# Altium schematic symbol library U_BQ294700.Schlib: 1 symbol
Pins are listed as number, name and electrical type; pins without a type are passive.

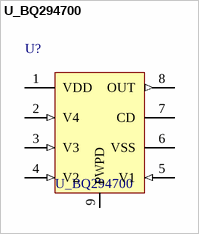
[diagram p0: symbol U_BQ294700]

## U_BQ294700
designator U?
Overvoltage Protection IC for Li-Ion Batteries
pins: 1 VDD (power) "Power supply input", 2 V4 (in) "Sense input for positive voltage of the fourth cell from the bottom of the stack", 3 V3 (in) "Sense input for positive voltage of the third cell from the bottom of the stack", 4 V2 (in) "Sense input for positive voltage of the second cell from the bottom of the stack", 5 V1 (in) "Sense input for positive voltage of the lowest cell in the stack", 6 VSS (power) "Electrically connected to IC ground and negative terminal of the lowest cell in the stack", 7 CD "External capacitor connection for delay timer", 8 OUT (out) "Analog Output drive for overvoltage fault signal. Active High or Open Drain Active Low", 9 PWPD "TI recommends connecting the exposed pad to VSS on PCB."
1 alternate drawing of the same symbol